# EAGLE library part 1-1734839-0 (library 1-1734839-0)
FFC & FPC Connectors 0.5mm PITCH T/C 10P FPC Source: Datasheet <http://www.farnell.com/datasheets/586796.pdf>
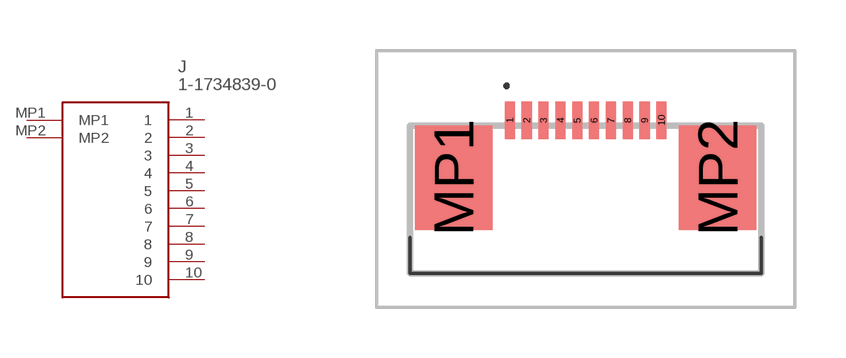
[diagram p0: symbol with the pads of 117348390; footprint 117348390]

Designator prefix J

## 1-1734839-0 (Arrow_Part_Number: 1-1734839-0; Arrow_Price-Stock: https://www.arrow.com/en/products/1-1734839-0/te-connectivity?region=nac; Description: FFC & FPC Connectors 0.5mm PITCH T/C 10P FPC; Height: 2mm; Manufacturer_Name: TE Connectivity; Manufacturer_Part_Number: 1-1734839-0; Mouser_Part_Number: 571-1-1734839-0; Mouser_Price-Stock: https://www.mouser.co.uk/ProductDetail/TE-Connectivity/1-1734839-0?qs=sXy4Dx%2FMQpP10O8tS9a6RA%3D%3D)  [117348390]
1  1
2  2
3  3
4  4
5  5
6  6
7  7
8  8
9  9
10  10
MP1  MP1
MP2  MP2

## Footprint 117348390 (pad centres in mm)
1-1734839-0-1
smd 0.3 x 1.1: 1 -2.25,2.275; 2 -1.75,2.275; 3 -1.25,2.275; 4 -0.75,2.275; 5 -0.25,2.275; 6 0.25,2.275; 7 0.75,2.275; 8 1.25,2.275; 9 1.75,2.275; 10 2.25,2.275
smd 2.3 x 3.1: MP1 -3.92,0.575; MP2 3.92,0.575